# Altium footprint library GeneralConnectors.PcbLib: 17 footprints (part 1 of 2)
Each footprint in its own frame and in the unit in brackets; x right, y up, seen from the top. Pads: shape width x height; smd on the part's side, far side on the other; paste and mask are expansions set on the pad; w line width, h text height; cw(c..) or ccw(c..) is an arc to the next point about the centre after c.
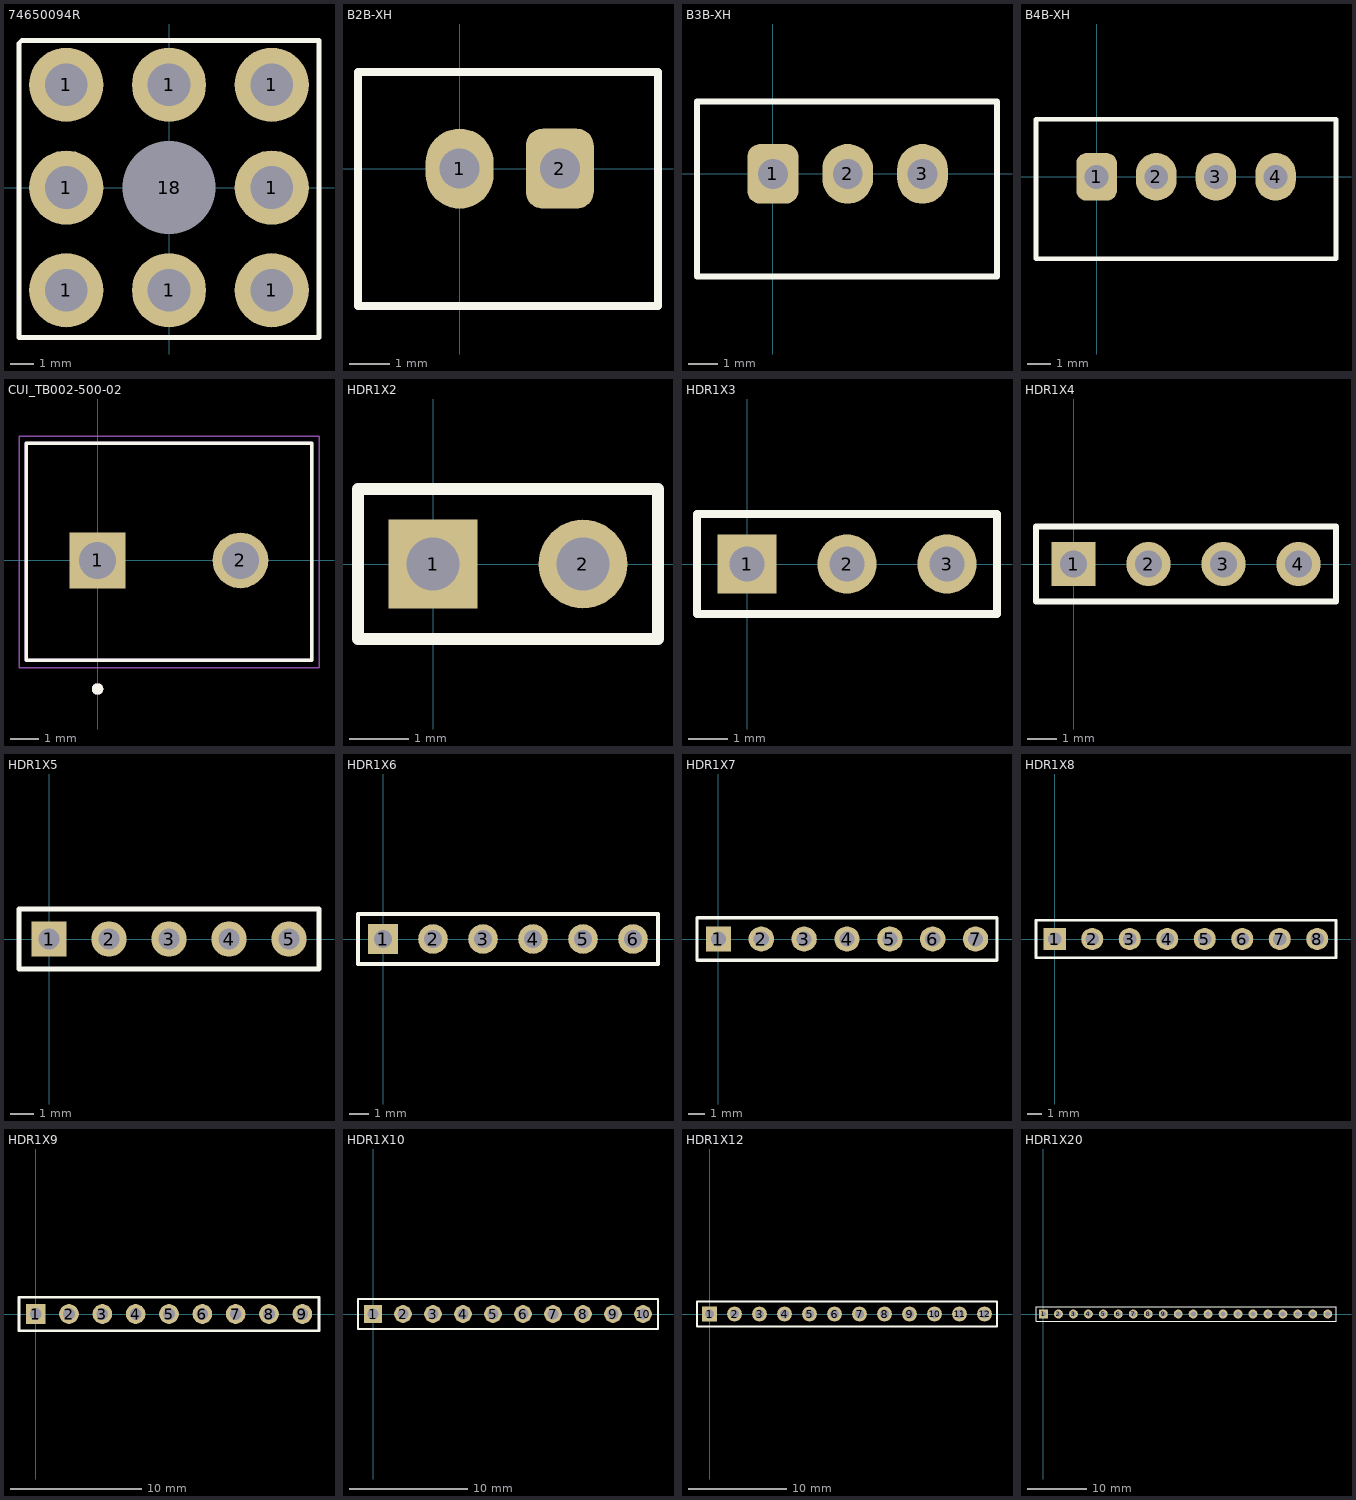
[diagram p0: the footprints below, top view; thin cyan lines are the x and y axes]

## 74650094R [mm] "M4 High Current Terminal Block"
pads (9):
  round 3.2 hole 1.85: 1(-4.435,-4.435) 1(-4.435,0) 1(-4.435,4.435) 1(0,-4.435) 1(0,4.435) 1(4.435,-4.435) 1(4.435,0) 1(4.435,4.435)
  round 1.524 hole 4 unplated: 18(0,0)
Top Overlay:
  lines w0.2: -6.477,-6.477 6.477,-6.477 6.477,6.35 -6.35,6.35 -6.477,6.223 -6.477,-6.477
3D body "74650094 (rev1).stp": height 3, standoff -3, extent -5,-5 5,5

## B2B-XH [mm] "JST 2-pin Header"
pads (2):
  oval 1.7x2 hole 1: 1(0,0)
  rrect50% 1.7x2 hole 1: 2(2.5,0)
Top Overlay:
  lines w0.2: -2.54,-3.429 -2.54,2.413 4.953,2.413 4.953,-3.429 -2.54,-3.429
3D body "JST_XH_B2B-XH-A_1x02_P2.50mm_Vertical.step": height 7, standoff -3.4, extent -2.45,-3.4 4.95,2.35

## B3B-XH [mm] "JST 3-pin connector"
pads (3):
  rrect50% 1.7x2 hole 1: 1(0,0)
  oval 1.7x2 hole 1: 2(2.5,0) 3(5,0)
Top Overlay:
  lines w0.2: -2.54,-3.429 7.493,-3.429 7.493,2.413 -2.54,2.413 -2.54,-3.429
3D body "JST_XH_B3B-XH-A_1x03_P2.50mm_Vertical.step": height 7, standoff -3.4, extent -2.45,-3.4 7.45,2.35

## B4B-XH [mm] "JST 4-Pin"
pads (4):
  rrect50% 1.7x2 hole 1: 1(0,0)
  oval 1.7x2 hole 1: 2(2.5,0) 3(5,0) 4(7.5,0)
Top Overlay:
  lines w0.2: -2.54,-3.429 -2.54,2.413 10.033,2.413 10.033,-3.429 -2.54,-3.429
3D body "JST_XH_B4B-XH-A_1x04_P2.50mm_Vertical.step": height 7, standoff -3.4, extent -2.45,-3.4 9.95,2.35

## CUI_TB002-500-02 [mm] "1x2 Screw Terminal Block"
height 10
pads (2):
  rect 1.95x1.95 hole 1.3: 1(0,0)
  round 1.95 hole 1.3: 2(5,0)
Top Overlay:
  circle w0.2: c0,-4.5 r0.1
  lines w0.127: -2.5,-3.5 7.5,-3.5 7.5,4.1 -2.5,4.1 -2.5,-3.5
Mechanical 13:
  circle w0.2: c0,-4.5 r0.1
  lines w0.127: -2.5,-3.5 7.5,-3.5 7.5,4.1 -2.5,4.1 -2.5,-3.5
Mechanical 15:
  lines w0.05: -2.75,-3.75 -2.75,4.35 7.75,4.35 7.75,-3.75 -2.75,-3.75
3D body "CUI_DEVICES_TB002-500-02BE.x_t": height 10, standoff -4.35, extent -2.5,-3.95 8,3.65

## HDR1X2 [mm] "Connector; Header; 2 Position"
pads (2):
  rect 1.5x1.5 hole 0.9: 1(0,0)
  round 1.5 hole 0.9: 2(2.54,0)
Top Overlay:
  lines w0.2: -1.27,-1.27 -1.27,1.27 3.81,1.27 3.81,-1.27 -1.27,-1.27
3D body "61300211121_Download_STP_61300211121_rev1.stp": height 8.54, standoff -3, extent -1.27,-1.27 3.81,1.27

## HDR1X3 [mm] "Connector; Header; 3 Position"
pads (3):
  rect 1.5x1.5 hole 0.9: 1(0,0)
  round 1.5 hole 0.9: 2(2.54,0) 3(5.08,0)
Top Overlay:
  lines w0.2: -1.27,-1.27 -1.27,1.27 6.35,1.27 6.35,-1.27 -1.27,-1.27
3D body "61300311121_Download_STP_61300311121_rev1.stp": height 8.54, standoff -3, extent -1.27,-1.27 6.35,1.27

## HDR1X4 [mm] "Connector; Header; 4 Position"
pads (4):
  rect 1.5x1.5 hole 0.9: 1(0,0)
  round 1.5 hole 0.9: 2(2.54,0) 3(5.08,0) 4(7.62,0)
Top Overlay:
  lines w0.2: -1.27,-1.27 -1.27,1.27 8.89,1.27 8.89,-1.27 -1.27,-1.27
3D body "61300411121_Downlaod_STP_61300411121_rev1.stp": height 8.54, standoff -3, extent -1.27,-1.27 8.89,1.27

## HDR1X5 [mm] "Connector; Header; 5 Position"
pads (5):
  rect 1.5x1.5 hole 0.9: 1(0,0)
  round 1.5 hole 0.9: 2(2.54,0) 3(5.08,0) 4(7.62,0) 5(10.16,0)
Top Overlay:
  lines w0.2: -1.27,-1.27 11.43,-1.27 11.43,1.27 -1.27,1.27 -1.27,-1.27
3D body "61300511121_Download_STP_61300511121_rev1.stp": height 8.54, standoff -3, extent -1.27,-1.27 11.43,1.27

## HDR1X6 [mm] "Connector; Header; 6 Position"
pads (6):
  rect 1.5x1.5 hole 0.9: 1(0,0)
  round 1.5 hole 0.9: 2(2.54,0) 3(5.08,0) 4(7.62,0) 5(10.16,0) 6(12.7,0)
Top Overlay:
  lines w0.2: -1.27,-1.27 -1.27,1.27 13.97,1.27 13.97,-1.27 -1.27,-1.27
3D body "61300611121_Download_STP_61300611121_rev1.stp": height 8.54, standoff -3, extent -1.27,-1.27 13.97,1.27

## HDR1X7 [mm] "Connector; Header; 7 Position"
pads (7):
  rect 1.5x1.5 hole 0.9: 1(0,0)
  round 1.5 hole 0.9: 2(2.54,0) 3(5.08,0) 4(7.62,0) 5(10.16,0) 6(12.7,0) 7(15.24,0)
Top Overlay:
  lines w0.2: -1.27,-1.27 -1.27,1.27 16.51,1.27 16.51,-1.27 -1.27,-1.27
3D body "61300711121_Download_STP_61300711121_rev1.stp": height 8.54, standoff -3, extent -1.27,-1.27 16.51,1.27

## HDR1X8 [mm] "Connector; Header; 8 Position"
pads (8):
  rect 1.5x1.5 hole 0.9: 1(0,0)
  round 1.5 hole 0.9: 2(2.54,0) 3(5.08,0) 4(7.62,0) 5(10.16,0) 6(12.7,0) 7(15.24,0) 8(17.78,0)
Top Overlay:
  lines w0.2: -1.27,-1.27 19.05,-1.27 19.05,1.27 -1.27,1.27 -1.27,-1.27
3D body "61300811121_Download_STP_61300811121_rev1.stp": height 8.54, standoff -3, extent -1.27,-1.27 19.05,1.27

## HDR1X9 [mm] "Connector; Header; 9 Position"
pads (9):
  rect 1.5x1.5 hole 0.9: 1(0,0)
  round 1.5 hole 0.9: 2(2.54,0) 3(5.08,0) 4(7.62,0) 5(10.16,0) 6(12.7,0) 7(15.24,0) 8(17.78,0) 9(20.32,0)
Top Overlay:
  lines w0.2: -1.27,-1.27 -1.27,1.27 21.59,1.27 21.59,-1.27 -1.27,-1.27
3D body "61300911121_Download_STP_61300911121_rev1.stp": height 8.54, standoff -3, extent -1.27,-1.27 21.59,1.27

## HDR1X10 [mm] "Connector; Header; 10 Position"
pads (10):
  rect 1.5x1.5 hole 0.9: 1(0,0)
  round 1.5 hole 0.9: 2(2.54,0) 3(5.08,0) 4(7.62,0) 5(10.16,0) 6(12.7,0) 7(15.24,0) 8(17.78,0) 9(20.32,0) 10(22.86,0)
Top Overlay:
  lines w0.2: -1.27,-1.27 -1.27,1.27 0.635,1.27 24.13,1.27 24.13,-1.27 -1.27,-1.27
3D body "61301011121_Download_STP_61301011121_rev1.stp": height 8.54, standoff -3, extent -1.27,-1.27 24.13,1.27

## HDR1X12 [mm] "Connector; Header; 12 Position"
pads (12):
  rect 1.5x1.5 hole 0.9: 1(0,0)
  round 1.5 hole 0.9: 2(2.54,0) 3(5.08,0) 4(7.62,0) 5(10.16,0) 6(12.7,0) 7(15.24,0) 8(17.78,0) 9(20.32,0) 10(22.86,0) 11(25.4,0) 12(27.94,0)
Top Overlay:
  lines w0.2: -1.27,-1.27 -1.27,1.27 0.635,1.27 29.21,1.27 29.21,-1.27 -1.27,-1.27
3D body "61301211121_Download_STP_61301211121_rev1.stp": height 8.54, standoff -3, extent -1.27,-1.27 29.21,1.27

## HDR1X20 [mm]
pads (20):
  rect 1.5x1.5 hole 0.9: 1(0,0)
  round 1.5 hole 0.9: 2(2.54,0) 3(5.08,0) 4(7.62,0) 5(10.16,0) 6(12.7,0) 7(15.24,0) 8(17.78,0) 9(20.32,0) 10(22.86,0) 11(25.4,0) 12(27.94,0) 13(30.48,0) 14(33.02,0) 15(35.56,0) 16(38.1,0) 17(40.64,0) 18(43.18,0) 19(45.72,0) 20(48.26,0)
Top Overlay:
  lines w0.2: -1.27,-1.27 49.657,-1.27 49.657,1.27 -1.27,1.27 -1.27,-1.27
3D body "PinHeader_1x20_P2.54mm_Vertical.step": height 8.54, standoff -3, extent -1.27,-1.27 49.53,1.27